# EAGLE library part OLED (library tmxk)
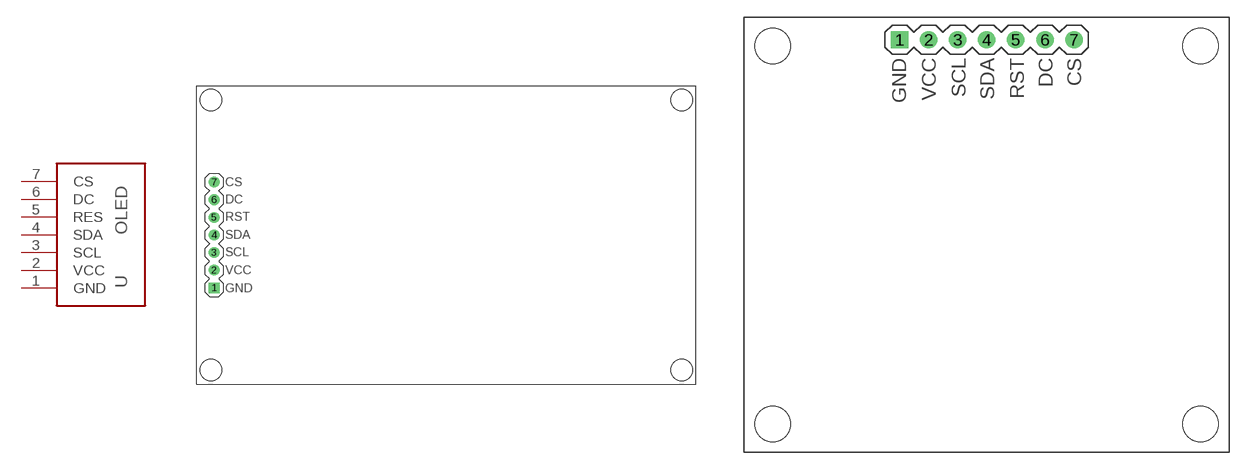
[diagram p24: symbol with the pads of OLED-2.42'; footprints OLED-2.42', OLED-1.54']

Designator prefix U

## OLED2.42‘  [OLED-2.42']
1  GND
2  VCC
3  SCL
4  SDA
5  RES
6  DC
7  CS

## OLED1.54’  [OLED-1.54']
Pads as for OLED-2.42'

## Footprint OLED-2.42' (pad centres in mm)
drill 1.016 square: 1 -33.49,-7.61
drill 1.016: 2 -33.49,-5.07; 3 -33.49,-2.53; 4 -33.49,0.01; 5 -33.49,2.55; 6 -33.49,5.09; 7 -33.49,7.63
hole 3.1 at -33.99,-19.49
hole 3.1 at -33.99,19.51
hole 3.1 at 34.01,19.51
hole 3.1 at 34.01,-19.49

## Footprint OLED-1.54' (pad centres in mm)
drill 1.016 square: 1 -7.61,17.03
drill 1.016: 2 -5.07,17.03; 3 -2.53,17.03; 4 0.01,17.03; 5 2.55,17.03; 6 5.09,17.03; 7 7.63,17.03
hole 3.1 at -18.7,16.5
hole 3.1 at 18.7,16.5
hole 3.1 at 18.7,-16.5
hole 3.1 at -18.7,-16.5